# Altium schematic symbol library 1935174.SchLib: 1 symbol
Pins are listed as number, name and electrical type; pins without a type are passive.

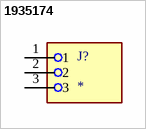
[diagram p0: symbol 1935174]

## 1935174
designator J?
PCB Terminal Screw 5mm 16AWG 400V 17.5A 3 Position COMBICON PT Series | Phoenix Contact 1935174; SnapEDA_Link: https://www.snapeda.com/parts/1935174/Phoenix+Contact/view-part/?ref=snap; Package: None; Value: *; MF: Phoenix Contact; MP: 1935174; Check_prices: https://www.snapeda.com/parts/1935174/Phoenix+Contact/view-part/?ref=eda
footprint PHOENIX_1935174
pins: 1, 2, 3